# EAGLE library part DRV8838 (library bleHAT)
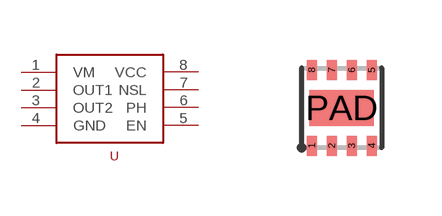
[diagram p11: symbol with the pads of WSON-8-PAD; footprint WSON-8-PAD]

Designator prefix -

## DRV8838  [WSON-8-PAD]
1  VM
2  OUT1
3  OUT2
4  GND
5  EN
6  PH
7  NSL
8  VCC

## Footprint WSON-8-PAD (pad centres in mm)
smd 0.25 x 0.5: 1 -0.75,-0.95; 2 -0.25,-0.95; 3 0.25,-0.95; 4 0.75,-0.95; 5 0.75,0.95; 6 0.25,0.95; 7 -0.25,0.95; 8 -0.75,0.95
smd 1.6 x 0.9: PAD 0,0